# Altium schematic symbol library Semistors.SchLib: 1 symbol
Pins are listed as number, name and electrical type; pins without a type are passive.

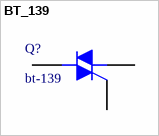
[diagram p0: symbol BT_139]

## BT_139
designator Q?, comment bt-139
footprint BT_139 (TO-220)
pins: 1 M1, 2 M2, 3 G